# EAGLE library part XR-T5684J (library exar)
T1 LINE INTERFACE
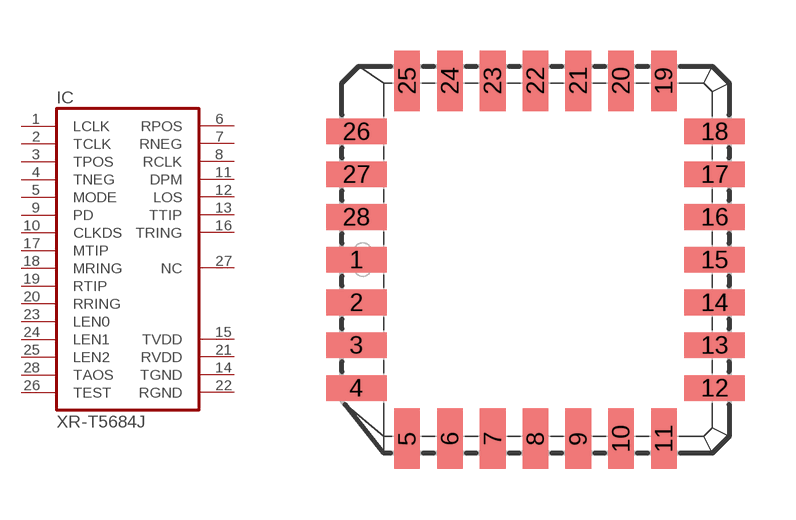
[diagram p16: symbol with the pads of PLCC28; footprint PLCC28]

Designator prefix IC

## XR-T5684J  [PLCC28]
1  LCLK  in
2  TCLK  in
3  TPOS  in
4  TNEG  in
5  MODE  in
6  RPOS  out
7  RNEG  out
8  RCLK  out
9  PD  in
10  CLKDS  in
11  DPM  out
12  LOS  out
13  TTIP  out
14  TGND  pwr
15  TVDD  pwr
16  TRING  out
17  MTIP  in
18  MRING  in
19  RTIP  in
20  RRING  in
21  RVDD  pwr
22  RGND  pwr
23  LEN0  in
24  LEN1  in
25  LEN2  in
26  TEST  in
27  NC  nc
28  TAOS  in

## Footprint PLCC28 (pad centres in mm)
Plastic Leaded Chip Carrier
smd 1.8 x 0.76: 1 -5.32,0; 2 -5.32,-1.27; 3 -5.32,-2.54; 4 -5.32,-3.81; 12 5.32,-3.81; 13 5.32,-2.54; 14 5.32,-1.27; 15 5.32,0; 16 5.32,1.27; 17 5.32,2.54; 18 5.32,3.81; 26 -5.32,3.81; 27 -5.32,2.54; 28 -5.32,1.27
smd 0.76 x 1.8: 5 -3.81,-5.32; 6 -2.54,-5.32; 7 -1.27,-5.32; 8 0,-5.32; 9 1.27,-5.32; 10 2.54,-5.32; 11 3.81,-5.32; 19 3.81,5.32; 20 2.54,5.32; 21 1.27,5.32; 22 0,5.32; 23 -1.27,5.32; 24 -2.54,5.32; 25 -3.81,5.32